# EAGLE library part ESP32-D0WDQ6 (library ESP32-D0WDQ6)
RF System on a Chip - SoC SMD IC ESP32-D0WDQ6, Dual Core MCU, WiFi & Bluetooth Combo, QFN48-pin, 6*6mm Source: Datasheet <https://www.espressif.com/sites/default/files/documentation/esp32_datasheet_en.pdf>
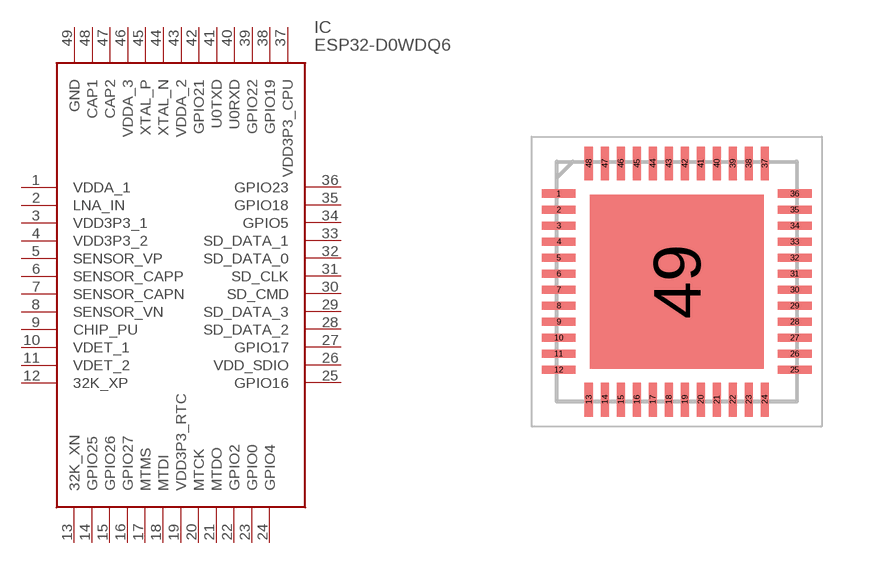
[diagram p0: symbol with the pads of QFN40P600X600X90-49N; footprint QFN40P600X600X90-49N]

Designator prefix IC

## ESP32-D0WDQ6 (Description: RF System on a Chip - SoC SMD IC ESP32-D0WDQ6, Dual Core MCU, WiFi & Bluetooth Combo, QFN48-pin, 6*6mm; Height: 0.9mm; Manufacturer_Name: Espressif Systems; Manufacturer_Part_Number: ESP32-D0WDQ6; Mouser_Part_Number: 356-ESP32-D0WDQ6; Mouser_Price-Stock: https://www.mouser.co.uk/ProductDetail/Espressif-Systems/ESP32-D0WDQ6?qs=chTDxNqvsykWgzfXx0gR%252BQ%3D%3D)  [QFN40P600X600X90-49N]
1  VDDA_1
2  LNA_IN
3  VDD3P3_1
4  VDD3P3_2
5  SENSOR_VP
6  SENSOR_CAPP
7  SENSOR_CAPN
8  SENSOR_VN
9  CHIP_PU
10  VDET_1
11  VDET_2
12  32K_XP
13  32K_XN
14  GPIO25
15  GPIO26
16  GPIO27
17  MTMS
18  MTDI
19  VDD3P3_RTC
20  MTCK
21  MTDO
22  GPIO2
23  GPIO0
24  GPIO4
25  GPIO16
26  VDD_SDIO
27  GPIO17
28  SD_DATA_2
29  SD_DATA_3
30  SD_CMD
31  SD_CLK
32  SD_DATA_0
33  SD_DATA_1
34  GPIO5
35  GPIO18
36  GPIO23
37  VDD3P3_CPU
38  GPIO19
39  GPIO22
40  U0RXD
41  U0TXD
42  GPIO21
43  VDDA_2
44  XTAL_N
45  XTAL_P
46  VDDA_3
47  CAP2
48  CAP1
49  GND

## Footprint QFN40P600X600X90-49N (pad centres in mm)
ESP32-D0WDQ6-1
smd 0.85 x 0.2: 1 -2.95,2.2; 2 -2.95,1.8; 3 -2.95,1.4; 4 -2.95,1; 5 -2.95,0.6; 6 -2.95,0.2; 7 -2.95,-0.2; 8 -2.95,-0.6; 9 -2.95,-1; 10 -2.95,-1.4; 11 -2.95,-1.8; 12 -2.95,-2.2; 25 2.95,-2.2; 26 2.95,-1.8; 27 2.95,-1.4; 28 2.95,-1; 29 2.95,-0.6; 30 2.95,-0.2; 31 2.95,0.2; 32 2.95,0.6; 33 2.95,1; 34 2.95,1.4; 35 2.95,1.8; 36 2.95,2.2
smd 0.2 x 0.85: 13 -2.2,-2.95; 14 -1.8,-2.95; 15 -1.4,-2.95; 16 -1,-2.95; 17 -0.6,-2.95; 18 -0.2,-2.95; 19 0.2,-2.95; 20 0.6,-2.95; 21 1,-2.95; 22 1.4,-2.95; 23 1.8,-2.95; 24 2.2,-2.95; 37 2.2,2.95; 38 1.8,2.95; 39 1.4,2.95; 40 1,2.95; 41 0.6,2.95; 42 0.2,2.95; 43 -0.2,2.95; 44 -0.6,2.95; 45 -1,2.95; 46 -1.4,2.95; 47 -1.8,2.95; 48 -2.2,2.95
smd 4.35 x 4.35: 49 0,0